# Altium footprint library wifi_car.PcbLib: 1 footprints
Each footprint in its own frame and in the unit in brackets; x right, y up, seen from the top. Pads: shape width x height; smd on the part's side, far side on the other; paste and mask are expansions set on the pad; w line width, h text height; cw(c..) or ccw(c..) is an arc to the next point about the centre after c.
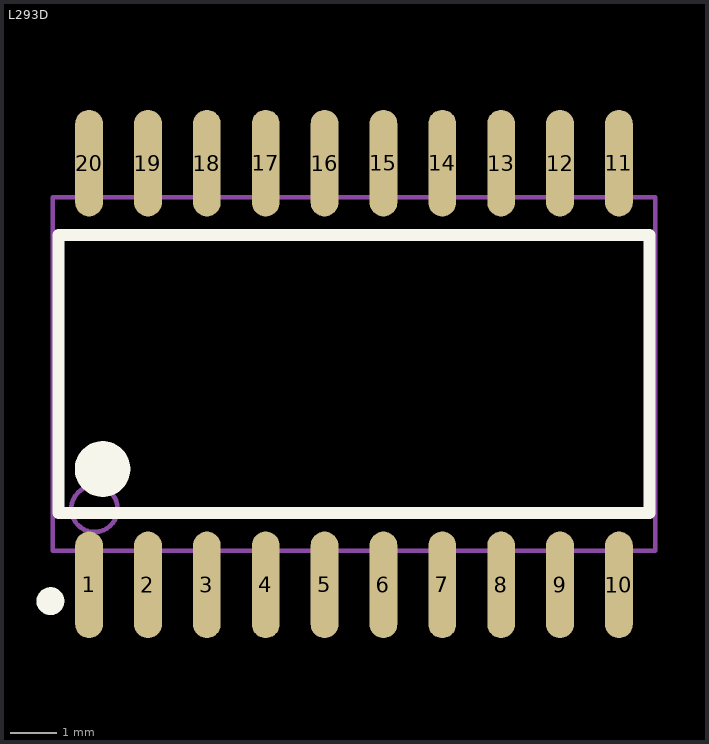
[diagram p0: the footprint, top view; thin cyan lines are the x and y axes]

## L293D [mm]
pads (20):
  oval 0.6x2.3 smd: 1(28.192,19.027) 2(29.462,19.027) 3(30.732,19.027) 4(32.002,19.027) 5(33.272,19.027) 6(34.542,19.027) 7(35.812,19.027) 8(37.082,19.027) 9(38.352,19.027) 10(39.622,19.027) 11(39.622,28.127) 12(38.352,28.127) 13(37.082,28.127) 14(35.812,28.127) 15(34.542,28.127) 16(33.272,28.127) 17(32.002,28.127) 18(30.732,28.127) 19(29.462,28.127) 20(28.192,28.127)
Top Overlay:
  circle w0.3: c27.357,18.677 r0.15
  circle w0.6: c28.482,21.527 r0.3
  lines w0.254: 27.532,20.577 27.532,26.577 40.282,26.577 40.282,20.577 27.532,20.577
Mechanical 13:
  circle w0.1: c28.307,20.667 r0.5
  lines w0.1: 27.407,19.767 27.407,27.387 40.407,27.387 40.407,19.767 27.407,19.767